# Altium schematic symbol library AEM10941-QFN.SchLib: 1 symbol
Pins are listed as number, name and electrical type; pins without a type are passive.

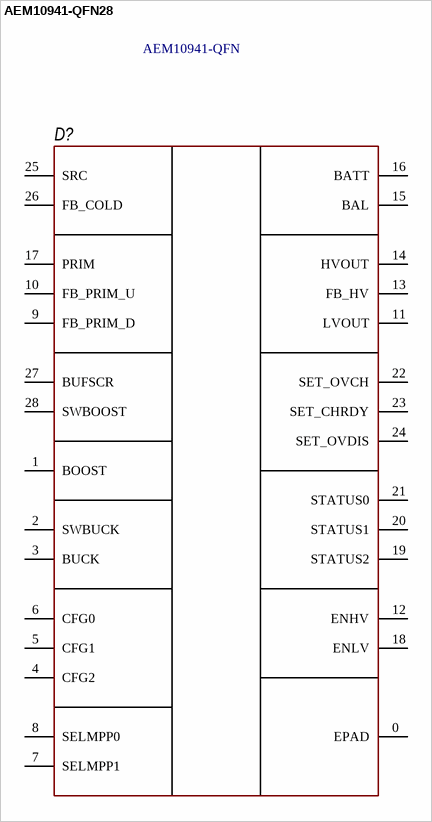
[diagram p0: symbol AEM10941-QFN28]

## AEM10941-QFN28
designator D?, comment AEM10941-QFN
Intergated energy management circuit that extracts DC power from up to 7-cell solar panels. With MPPT controller.; Manufacturer: e-peas; Type: PV energy harvester; Power/Voltage: 550mW; Operation Temperature: -40...+125 °C; Help URL: https://eu.mouser.com/ProductDetail/e-peas/AEM10941-QFN?qs=W%2FMpXkg%252BdQ7CeqB2lBPbRQ%3D%3D; Value: *; Tolerance: *; Note: *; Mfr. Part Number: AEM10941-QFN
footprint QFN50P500X500X85_HS-29N (QFN, 28-Leads, Body 5,00x5,00mm, Pitch 0,50mm, Thermal Pad 3,15x3,15mm, IPC Medium Density)
pins: 0 EPAD (power), 1 BOOST (power), 2 SWBUCK (power), 3 BUCK (power), 4 CFG2 (power), 5 CFG1 (power), 6 CFG0 (power), 7 SELMPP1 (power), 8 SELMPP0 (power), 9 FB_PRIM_D (power), 10 FB_PRIM_U (power), 11 LVOUT (power), 12 ENHV (power), 13 FB_HV (power), 14 HVOUT (power), 15 BAL (power), 16 BATT (power), 17 PRIM (power), 18 ENLV (power), 19 STATUS2 (power), 20 STATUS1 (power), 21 STATUS0 (power), 22 SET_OVCH (power), 23 SET_CHRDY (power), 24 SET_OVDIS (power), 25 SRC (power), 26 FB_COLD (power), 27 BUFSCR (power), 28 SWBOOST (power)